# Altium footprint library PCB1.PcbLib: 1 footprints
Each footprint in its own frame and in the unit in brackets; x right, y up, seen from the top. Pads: shape width x height; smd on the part's side, far side on the other; paste and mask are expansions set on the pad; w line width, h text height; cw(c..) or ccw(c..) is an arc to the next point about the centre after c.
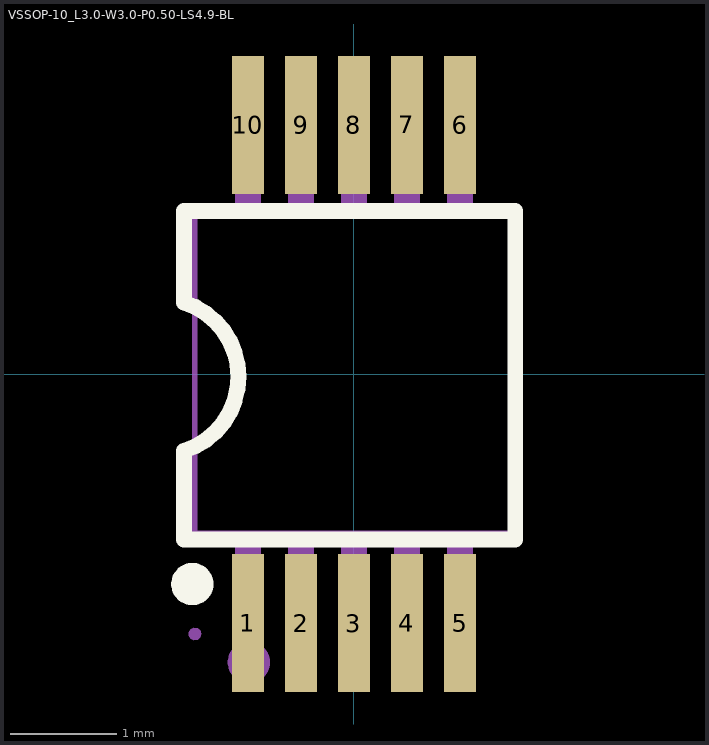
[diagram p0: the footprint, top view; thin cyan lines are the x and y axes]

## VSSOP-10_L3.0-W3.0-P0.50-LS4.9-BL [mil]
pads (10):
  rect 11.8x51.2 smd paste+0 mask+2: 1(-39.3,-92.5) 2(-19.6,-92.5) 3(0,-92.5) 4(19.7,-92.5) 5(39.4,-92.5) 6(39.4,92.5) 7(19.7,92.5) 8(0,92.5) 9(-19.6,92.5) 10(-39.3,92.5)
Top Overlay:
  lines w5.9: -63.1,-61.5 -63.1,-28.5 -58.8,-26.8 -54.9,-24.5 -51.4,-21.5 -48.4,-18.1 -46,-14.2 -44.3,-10 -43.2,-5.5 -42.8,-1 -43.2,3.6 -44.3,8 -46,12.2 -48.4,16.1 -51.4,19.5 -54.9,22.5 -58.8,24.8 -63.1,26.5 ; -63.1,27.5 -63.1,60.5 ; -62.1,-61.5 59.9,-61.5 59.9,60.5 -62.1,60.5
  lines w7.9: -63.9,-78 -63.5,-76.3 -62.4,-74.9 -60.8,-74.1 -59.1,-74.1 -57.5,-74.9 -56.4,-76.3 -56,-78 -56.4,-79.7 -57.5,-81.1 -59.1,-81.8 -60.8,-81.8 -62.4,-81.1 -63.5,-79.7 -63.9,-78
Mechanical 6:
  lines w7.9: -42.9,-107 -42.5,-105.3 -41.4,-103.9 -39.8,-103.1 -38.1,-103.1 -36.5,-103.9 -35.4,-105.3 -35,-107 -35.4,-108.7 -36.5,-110.1 -38.1,-110.8 -39.8,-110.8 -41.4,-110.1 -42.5,-108.7 -42.9,-107
Mechanical 7:
  lines w2: -59,-59 -59,59.1 59.1,59.1 59.1,-59 -59,-59
Mechanical 8:
  region: -56.7,-96.4 -57,-97.7 -58,-98.6 -59.4,-98.8 -60.6,-98.2 -61.3,-97.1 -61.3,-95.8 -60.6,-94.7 -59.4,-94.1 -58,-94.3 -57,-95.2
Mechanical 9:
  region: -44.1,-96.4 -44.1,-74.8 -34.6,-74.8 -34.6,-96.4
  region: -24.4,-96.4 -24.4,-74.8 -14.9,-74.8 -14.9,-96.4
  region: -4.7,-96.4 -4.7,-74.8 4.8,-74.8 4.8,-96.4
  region: 15,-96.4 15,-74.8 24.4,-74.8 24.4,-96.4
  region: 34.7,-96.4 34.7,-74.8 44.1,-74.8 44.1,-96.4
  region: 34.7,74.8 34.7,96.5 44.1,96.5 44.1,74.8
  region: 15,74.8 15,96.5 24.4,96.5 24.4,74.8
  region: -4.7,74.8 -4.7,96.5 4.8,96.5 4.8,74.8
  region: -24.4,74.8 -24.4,96.5 -14.9,96.5 -14.9,74.8
  region: -44.1,74.8 -44.1,96.5 -34.6,96.5 -34.6,74.8
Mechanical 10:
  region: -44.1,-75.2 -44.1,-58.7 -34.6,-58.7 -34.6,-75.2
  region: -24.4,-75.2 -24.4,-58.7 -14.9,-58.7 -14.9,-75.2
  region: -4.7,-75.2 -4.7,-58.7 4.8,-58.7 4.8,-75.2
  region: 15,-75.2 15,-58.7 24.4,-58.7 24.4,-75.2
  region: 34.7,-75.2 34.7,-58.7 44.1,-58.7 44.1,-75.2
  region: 34.7,58.7 34.7,75.2 44.1,75.2 44.1,58.7
  region: 15,58.7 15,75.2 24.4,75.2 24.4,58.7
  region: -4.7,58.7 -4.7,75.2 4.8,75.2 4.8,58.7
  region: -24.4,58.7 -24.4,75.2 -14.9,75.2 -14.9,58.7
  region: -44.1,58.7 -44.1,75.2 -34.6,75.2 -34.6,58.7